# Altium schematic symbol library RES0805.SchLib: 1 symbol
Pins are listed as number, name and electrical type; pins without a type are passive.

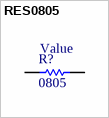
[diagram p0: symbol RES0805]

## RES0805
designator R?, comment 0805
0805 resistor; Value: Value
footprint RES0805R (resistor 0805 reflow soldering)
simulation model RESISTOR (Resistor)
signal-integrity model Res
pins: 1, 2